# Altium footprint library hddr_10x1_0.PcbLib: 1 footprints
Each footprint in its own frame and in the unit in brackets; x right, y up, seen from the top. Pads: shape width x height; smd on the part's side, far side on the other; paste and mask are expansions set on the pad; w line width, h text height; cw(c..) or ccw(c..) is an arc to the next point about the centre after c.
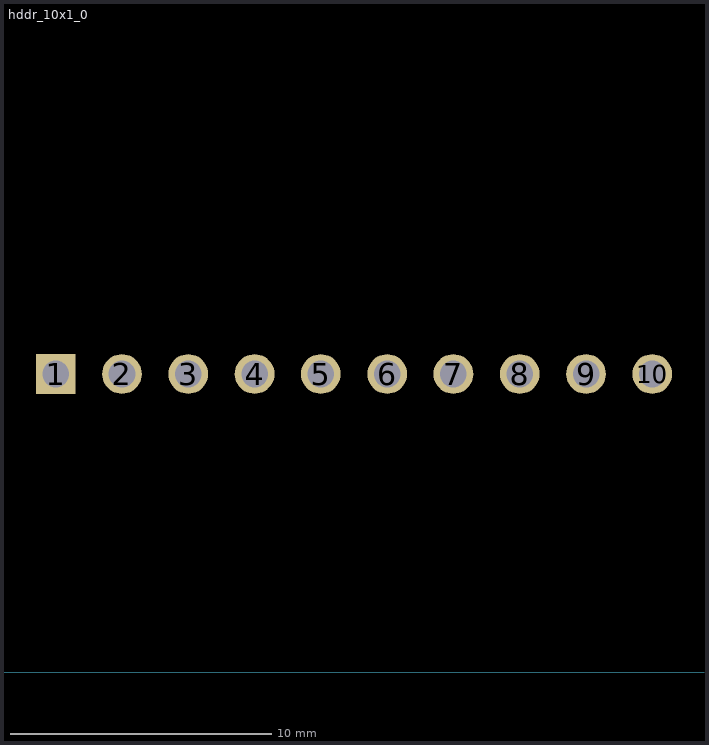
[diagram p0: the footprint, top view; thin cyan lines are the x and y axes]

## hddr_10x1_0 [mil] "0.1\" Header 10x1"
pads (10):
  rect 60x60 hole 40: 1(800,450)
  round 60 hole 40: 2(900,450) 3(1000,450) 4(1100,450) 5(1200,450) 6(1300,450) 7(1400,450) 8(1500,450) 9(1600,450) 10(1700,450)